# EAGLE library part TPS5435* (library TI)
TI 4.5V to 20V Input, 3A Output Synchronous PWM Switcher with Integrated FET
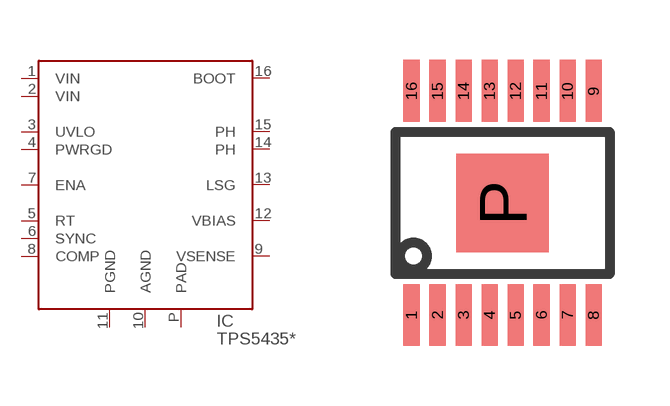
[diagram p19: symbol with the pads of MSOP16-P; footprint MSOP16-P]

Designator prefix IC

## TPS54350PWP, TPS54352PWP, TPS54353PWP, TPS54354PWP, TPS54355PWP, TPS54356PWP, TPS54357PWP  [MSOP16-P]
1  VIN  pwr
2  VIN  pwr
3  UVLO
4  PWRGD
5  RT
6  SYNC
7  ENA
8  COMP
9  VSENSE
10  AGND  pwr
11  PGND  pwr
12  VBIAS
13  LSG
14  PH
15  PH
16  BOOT
P  PAD  pwr

## Footprint MSOP16-P (pad centres in mm)
smd 0.4 x 1.55: 1 -2.275,-2.8; 2 -1.625,-2.8; 3 -0.975,-2.8; 4 -0.325,-2.8; 5 0.325,-2.8; 6 0.975,-2.8; 7 1.625,-2.8; 8 2.275,-2.8; 9 2.275,2.8; 10 1.625,2.8; 11 0.975,2.8; 12 0.325,2.8; 13 -0.325,2.8; 14 -0.975,2.8; 15 -1.625,2.8; 16 -2.275,2.8
smd 2.31 x 2.46: P 0,0